# Altium footprint library SparkControl.PcbLib: 15 footprints
Each footprint in its own frame and in the unit in brackets; x right, y up, seen from the top. Pads: shape width x height; smd on the part's side, far side on the other; paste and mask are expansions set on the pad; w line width, h text height; cw(c..) or ccw(c..) is an arc to the next point about the centre after c.
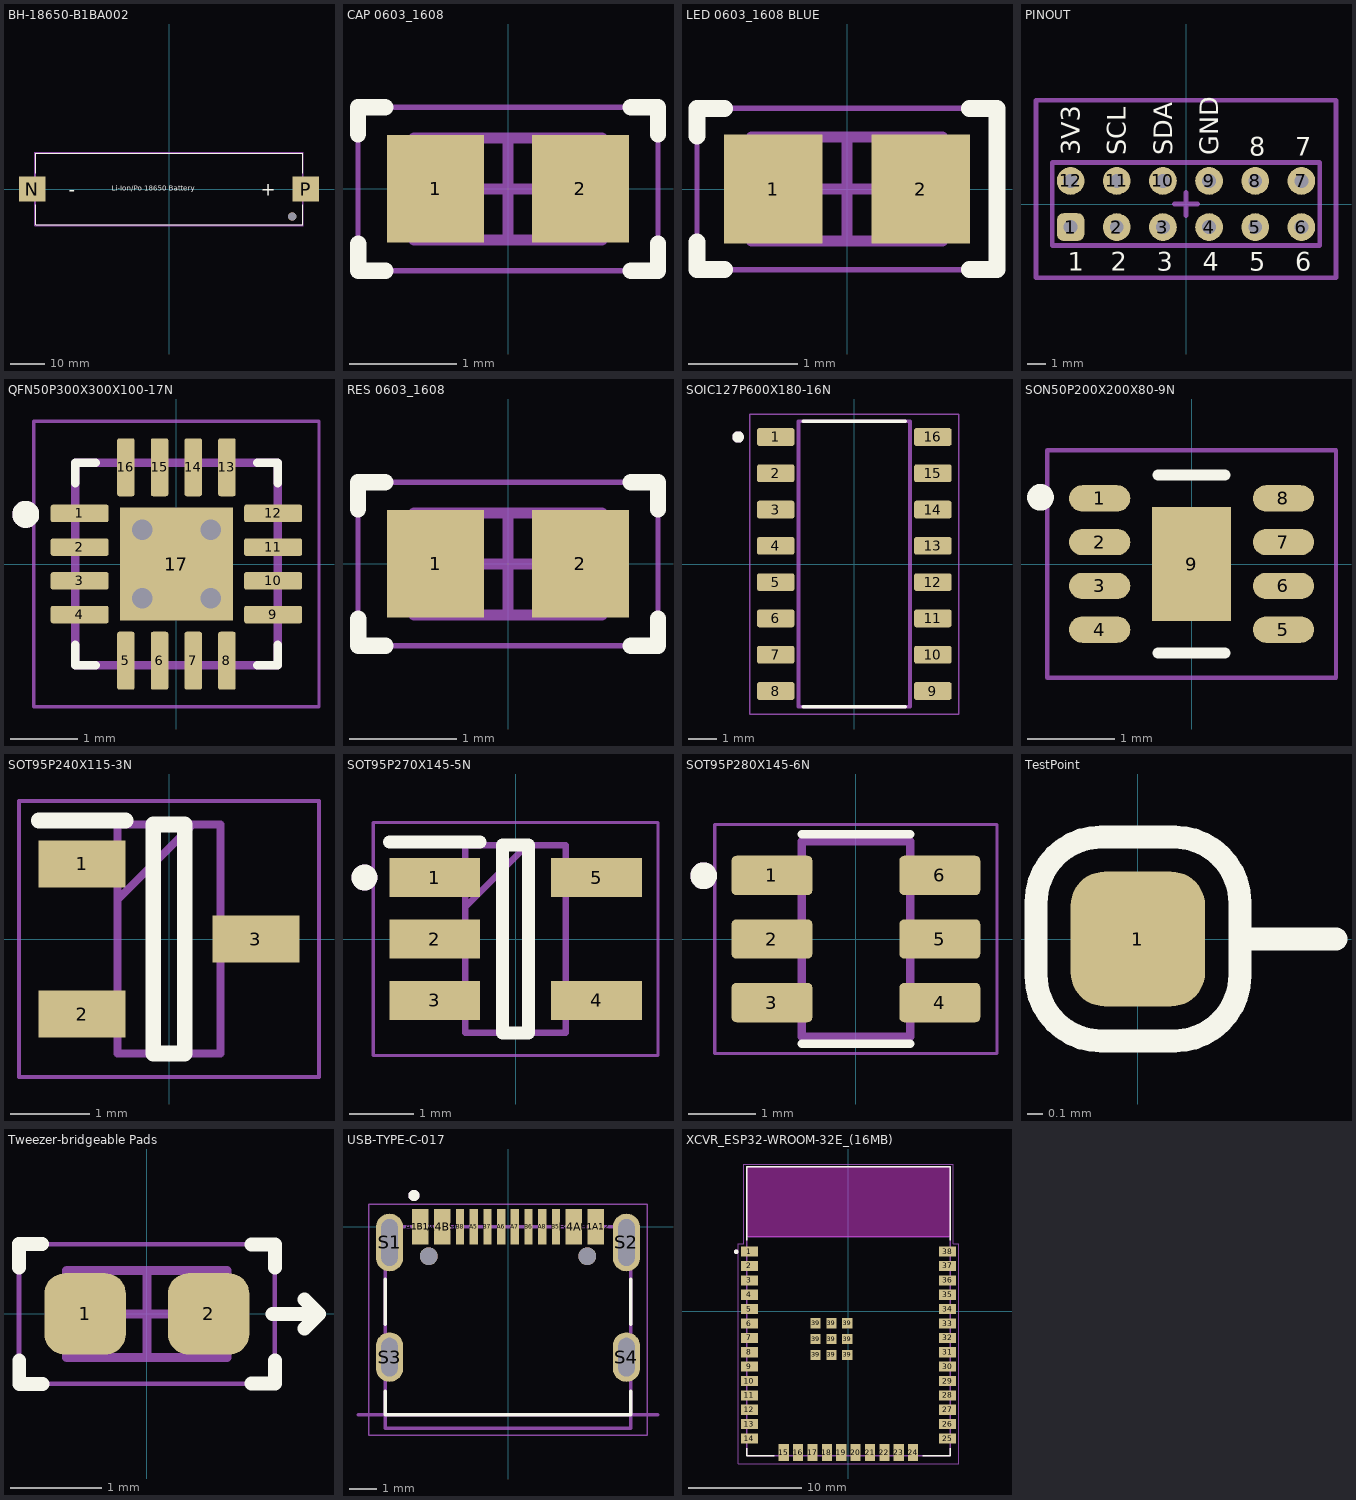
[diagram p0: the footprints below, top view; thin cyan lines are the x and y axes]

## BH-18650-B1BA002 [mm]
pads (3):
  rect 7.77x7.35 smd: N(-39.8,0)
  rect 7.7x7.35 smd: P(39.8,0)
  round 2.39 hole 2.4 unplated: ""(35.84,-8)
Top Overlay:
  lines w0.254: -38.862,-4.572 -38.862,-10.414 38.862,-10.414 38.862,-4.572 ; -38.862,4.572 -38.862,10.414 38.862,10.414 38.862,4.572
  text "Li-Ion/Po 18650 Battery" at -16.632,-0.508 h1.52
  text "-" at -29.21,-1.904 h3.81
  text "+" at 26.67,-1.904 h3.81
Mechanical 13:
  lines w0.127: -38.85,-10.45 -38.85,10.45 38.85,10.45 38.85,-10.45 -38.85,-10.45
  text "+" at 40.005,-0.762 h1.78
  text "-" at -41.275,-0.635 h1.78
Mechanical 15:
  lines w0.05: -39.1,-10.7 -39.1,10.7 39.1,10.7 39.1,-10.7 -39.1,-10.7
3D body "1042.STEP": height 14.86, standoff -3.43, extent -43.231,-10.325 43.231,10.325

## CAP 0603_1608 [mm] "Chip Capacitor, 2-Leads, Body 1.60x0.80mm, IPC Medium Density"
height 0.89
pads (2):
  rect 0.9x1 smd: 1(-0.675,0) 2(0.675,0)
Top Overlay:
  lines w0.152: -1.397,0.508 -1.397,0.762 -1.143,0.762 ; -1.394,-0.509 -1.394,-0.763 -1.14,-0.763 ; 1.143,-0.762 1.397,-0.762 1.397,-0.508 ; 1.143,0.761 1.397,0.761 1.397,0.507
Mechanical 13:
  lines w0.1: -0.875,-0.475 0.875,-0.475 0.875,0.475 -0.875,0.475 -0.875,-0.475
Mechanical 15:
  lines w0.05: -1.397,-0.762 1.397,-0.762 1.397,0.762 -1.397,0.762 -1.397,-0.762
  lines w0.1: -0.475,0 0.475,0 ; 0,-0.475 0,0.475
3D body "0603 cap.STEP": height 0.82, standoff 0, extent -0.8,-0.412 0.8,0.412

## LED 0603_1608 BLUE [mm] "Chip Diode, 2-Leads, Body 1.60x0.80mm, IPC Medium Density"
height 0.45
pads (2):
  rect 0.9x1 smd: 1(-0.675,0) 2(0.675,0)
Top Overlay:
  lines w0.152: -1.372,-0.483 -1.372,-0.737 -1.118,-0.737 ; -1.372,0.483 -1.372,0.737 -1.118,0.737 ; 1.118,-0.737 1.372,-0.737 1.372,0.737 1.118,0.737
Mechanical 13:
  lines w0.1: -0.875,-0.475 0.875,-0.475 0.875,0.475 -0.875,0.475 -0.875,-0.475
Mechanical 15:
  lines w0.05: -1.372,-0.737 1.372,-0.737 1.372,0.737 -1.372,0.737 -1.372,-0.737
  lines w0.1: -0.475,0 0.475,0 ; 0,-0.475 0,0.475
3D body "LED 0603 Lens BLUE.STEP": height 0.53, standoff 0.18, extent -0.55,-0.4 0.55,0.4
3D body "LED 0603 Base BLUE.STEP": height 0.28, standoff 0, extent -0.8,-0.4 0.8,0.4

## PINOUT [mil]
pads (12):
  rrect50% 60x60 hole 30: 1(-250,-50)
  round 60 hole 30: 2(-150,-50) 3(-50,-50) 4(50,-50) 5(150,-50) 6(250,-50) 7(250,50) 8(150,50) 9(50,50) 10(-50,50) 11(-150,50) 12(-250,50)
Top Overlay:
  text "3V3" at -230.01,106 h40
  text "SDA" at -30.01,106 h40
  text "8" at 136.67,105.01 h40
  text "SCL" at -130.01,106 h40
  text "GND" at 69.99,106 h40
  text "7" at 236.67,105.01 h40
  text "6" at 236.67,-144.99 h40
  text "5" at 136.67,-144.99 h40
  text "4" at 36.67,-144.99 h40
  text "3" at -63.33,-144.99 h40
  text "2" at -163.33,-144.99 h40
  text "1" at -256.66,-144.99 h40
Mechanical 13:
  lines w10: -290,-90 290,-90 290,90 -290,90 -290,-90
Mechanical 15:
  lines w10: -25,0 25,0 ; 0,-25 0,25 ; -325,-160 325,-160 325,225 -325,225 -325,-160

## QFN50P300X300X100-17N [mm]
pads (17):
  rrect25% 0.86x0.26 smd: 1(-1.435,0.75) 2(-1.435,0.25) 3(-1.435,-0.25) 4(-1.435,-0.75) 9(1.435,-0.75) 10(1.435,-0.25) 11(1.435,0.25) 12(1.435,0.75)
  rrect25% 0.26x0.86 smd: 5(-0.75,-1.435) 6(-0.25,-1.435) 7(0.25,-1.435) 8(0.75,-1.435) 13(0.75,1.435) 14(0.25,1.435) 15(-0.25,1.435) 16(-0.75,1.435)
  rect 1.68x1.68 smd paste-2: 17(0,0)
via -0.508,-0.508 diameter 0.6 hole 0.305
via 0.508,-0.508 diameter 0.6 hole 0.305
via 0.508,0.508 diameter 0.6 hole 0.305
via -0.508,0.508 diameter 0.6 hole 0.305
Top Overlay:
  circle w0.2: c-2.235,0.737 r0.1
  lines w0.127: -1.5,-1.2 -1.5,-1.5 -1.2,-1.5 ; -1.5,1.2 -1.5,1.5 -1.2,1.5 ; 1.2,-1.5 1.5,-1.5 1.5,-1.2 ; 1.2,1.5 1.5,1.5 1.5,1.2
Top Paste:
  region: 0.53,-0.53 -0.53,-0.53 -0.53,0.53 0.53,0.53
Mechanical 13:
  circle w0.2: c-2.235,0.737 r0.1
  lines w0.127: -1.5,-1.5 1.5,-1.5 1.5,1.5 -1.5,1.5 -1.5,-1.5
Mechanical 15:
  lines w0.05: -2.115,-2.115 2.115,-2.115 2.115,2.115 -2.115,2.115 -2.115,-2.115
3D body "BQ24075RGTR.STEP": height 1, standoff 0, extent -1.5,-1.5 1.5,1.5

## RES 0603_1608 [mm] "Chip Resistor, 2-Leads, Body 1.60x0.80mm, IPC Medium Density"
height 0.45
pads (2):
  rect 0.9x1 smd: 1(-0.675,0) 2(0.675,0)
Top Overlay:
  lines w0.152: -1.397,0.508 -1.397,0.762 -1.143,0.762 ; -1.394,-0.509 -1.394,-0.763 -1.14,-0.763 ; 1.143,-0.762 1.397,-0.762 1.397,-0.508 ; 1.143,0.761 1.397,0.761 1.397,0.507
Mechanical 13:
  lines w0.1: -0.875,-0.475 -0.875,0.475 0.875,0.475 0.875,-0.475 -0.875,-0.475
Mechanical 15:
  lines w0.05: -1.397,-0.762 1.397,-0.762 1.397,0.762 -1.397,0.762 -1.397,-0.762
  lines w0.1: -0.475,0 0.475,0 ; 0,-0.475 0,0.475
3D body "0603 resistor.STEP": height 0.45, standoff 0, extent -0.8,-0.4 0.8,0.4

## SOIC127P600X180-16N [mm]
pads (16):
  rrect25% 1.31x0.62 smd: 1(-2.75,4.445) 2(-2.75,3.175) 3(-2.75,1.905) 4(-2.75,0.635) 5(-2.75,-0.635) 6(-2.75,-1.905) 7(-2.75,-3.175) 8(-2.75,-4.445) 9(2.75,-4.445) 10(2.75,-3.175) 11(2.75,-1.905) 12(2.75,-0.635) 13(2.75,0.635) 14(2.75,1.905) 15(2.75,3.175) 16(2.75,4.445)
Top Overlay:
  circle w0.2: c-4.064,4.445 r0.1
  lines w0.127: -1.775,-5 1.775,-5 -1.775,-5 ; -1.775,5 1.775,5 -1.775,5
Mechanical 13:
  circle w0.2: c-4.064,4.445 r0.1
  lines w0.127: -1.95,-5 -1.95,5 1.95,5 1.95,-5 -1.95,-5
Mechanical 15:
  lines w0.05: -3.655,-5.25 3.655,-5.25 3.655,5.25 -3.655,5.25 -3.655,-5.25
3D body "step_temp.STEP": height 1.8, standoff 0, extent -3,-5 3,5

## SON50P200X200X80-9N [mm]
pads (9):
  oval 0.7x0.3 smd: 1(-1.05,0.75) 2(-1.05,0.25) 3(-1.05,-0.25) 4(-1.05,-0.75) 5(1.05,-0.75) 6(1.05,-0.25) 7(1.05,0.25) 8(1.05,0.75)
  rect 0.9x1.3 smd paste-2: 9(0,0)
Top Overlay:
  circle w0.203: c-1.727,0.762 r0.051
  lines w0.127: -0.381,-1.016 0.381,-1.016 ; -0.381,1.016 0.381,1.016
Top Paste:
  region: 0.255,-0.455 -0.255,-0.455 -0.255,0.455 0.255,0.455
Mechanical 15:
  lines w0.05: -1.65,-1.3 1.65,-1.3 1.65,1.3 -1.65,1.3 -1.65,-1.3
3D body "MAX17048G+.STEP": height 0.8, standoff 0, extent -1,-1 1,1

## SOT95P240X115-3N [mm]
pads (3):
  rect 1.1x0.6 smd: 1(-1.1,0.95) 2(-1.1,-0.95) 3(1.1,0)
Top Overlay:
  lines w0.2: -1.65,1.5 -0.55,1.5 ; -0.2,-1.45 0.2,-1.45 0.2,1.45 -0.2,1.45 -0.2,-1.45
Mechanical 13:
  lines w0.1: -0.65,0.5 0.3,1.45 ; -0.65,-1.45 0.65,-1.45 0.65,1.45 -0.65,1.45 -0.65,-1.45
Mechanical 15:
  lines w0.05: -1.9,-1.75 1.9,-1.75 1.9,1.75 -1.9,1.75 -1.9,-1.75
3D body "S8050.stp": height 1.15, standoff 0, extent -1.2,-1.45 1.2,1.45

## SOT95P270X145-5N [mm]
pads (5):
  rect 1.4x0.6 smd: 1(-1.25,0.95) 2(-1.25,0) 3(-1.25,-0.95) 4(1.25,-0.95) 5(1.25,0.95)
Top Overlay:
  circle w0.2: c-2.335,0.95 r0.1
  lines w0.2: -1.95,1.5 -0.55,1.5 ; -0.2,-1.45 -0.2,1.45 0.2,1.45 0.2,-1.45 -0.2,-1.45
Mechanical 13:
  circle w0.2: c-2.335,0.95 r0.1
Mechanical 15:
  lines w0.1: -0.775,0.5 0.175,1.45 ; -0.775,-1.45 -0.775,1.45 0.775,1.45 0.775,-1.45 -0.775,-1.45
Mechanical 20:
  lines w0.05: -2.2,-1.8 -2.2,1.8 2.2,1.8 2.2,-1.8 -2.2,-1.8
3D body "ME6211C33M5G-N.stp": height 1.45, standoff 0, extent -1.35,-1.45 1.35,1.45

## SOT95P280X145-6N [mm]
pads (6):
  rrect25% 1.21x0.59 smd: 1(-1.255,0.95) 2(-1.255,0) 3(-1.255,-0.95) 4(1.255,-0.95) 5(1.255,0) 6(1.255,0.95)
Top Overlay:
  circle w0.2: c-2.276,0.945 r0.1
  lines w0.127: -0.813,-1.565 0.813,-1.565 ; -0.813,1.565 0.813,1.565
Mechanical 13:
  circle w0.2: c-2.276,0.945 r0.1
  lines w0.127: -0.813,-1.462 0.813,-1.462 0.813,1.462 -0.813,1.462 -0.813,-1.462
Mechanical 15:
  lines w0.05: -2.11,-1.713 -2.11,1.713 2.11,1.713 2.11,-1.713 -2.11,-1.713
3D body "step_temp.STEP": height 1.44, standoff -0.01, extent -1.4,-1.462 1.4,1.462

## TestPoint [mil]
pads (1):
  rrect50% 35x35 smd mask+4: 1(0,0)
Top Overlay:
  lines w6: 26.5,0 51.5,0 ; -26.5,-9.5 ccw(c-9.5,-9.5) -9.5,-26.5 9.5,-26.5 ccw(c9.5,-9.5) 26.5,-9.5 26.5,9.5 ccw(c9.5,9.5) 9.5,26.5 -9.5,26.5 ccw(c-9.5,9.5) -26.5,9.5 -26.5,-9.5

## Tweezer-bridgeable Pads [mil]
pads (2):
  rrect50% 35x35 smd: 1(-26.57,0) 2(26.57,0)
Top Overlay:
  lines w6: -55,20 -55,30 -45,30 ; -54.9,-20.05 -54.9,-30.05 -44.9,-30.05 ; 45,-30 55,-30 55,-20 ; 44.99,29.95 54.99,29.95 54.99,19.95 ; 54,0 74,0 ; 67.75,-6.25 74,0 ; 67.75,6.25 74,0
Mechanical 13:
  lines w3.94: -34.45,-18.7 -34.45,18.7 34.45,18.7 34.45,-18.7 -34.45,-18.7
Mechanical 15:
  lines w1.97: -55,-30 55,-30 55,30 -55,30 -55,-30
  lines w3.94: -18.7,0 18.7,0 ; 0,-18.7 0,18.7

## USB-TYPE-C-017 [mm]
height 3.26
pads (18):
  rect 0.6x1.3 smd paste-100 mask+0.05: A1B12(-3.2,0.007) A4B9(-2.4,0.007) B1A12(3.2,0.007) B4A9(2.4,0.007)
  rect 0.3x1.3 smd paste-100 mask+0.05: A5(-1.25,0.007) A6(-0.25,0.007) A7(0.25,0.007) A8(1.25,0.007) B5(1.75,0.007) B6(0.75,0.007) B7(-0.75,0.007) B8(-1.75,0.007)
  oval 1x2.1 hole 0.6 slot 1.7 at 90 deg paste+0 mask+0.05: S1(-4.32,-0.571) S2(4.32,-0.571)
  oval 1x1.8 hole 0.6 slot 1.4 at 90 deg paste+0 mask+0.05: S3(-4.32,-4.751) S4(4.32,-4.751)
  round 0.65 hole 0.65 unplated paste+0: ""(-2.89,-1.07) ""(2.89,-1.071)
Top Overlay:
  circle w0.2: c-3.429,1.143 r0.1
  lines w0.127: -4.47,-6 -4.47,-6.86 4.47,-6.86 4.47,-6 ; -4.47,-3.55 -4.47,-1.91 ; 4.47,-3.55 4.47,-1.91
Top Paste:
  region: -4.82,-0.021 -4.82,0.078 -4.744,0.262 -4.603,0.403 -4.419,0.479 -4.221,0.479 -4.037,0.403 -3.896,0.262 -3.82,0.078 -3.82,-0.021 -3.82,-1.121 -3.82,-1.221 -3.896,-1.404 -4.037,-1.545 -4.221,-1.621 -4.419,-1.621 -4.603,-1.545 -4.744,-1.404 -4.82,-1.221 -4.82,-1.121
  region: 3.82,-0.021 3.82,0.078 3.896,0.262 4.037,0.403 4.221,0.479 4.42,0.479 4.603,0.403 4.744,0.262 4.82,0.078 4.82,-0.021 4.82,-1.121 4.82,-1.221 4.744,-1.404 4.603,-1.545 4.42,-1.621 4.221,-1.621 4.037,-1.545 3.896,-1.404 3.82,-1.221 3.82,-1.121
  region: -4.82,-4.351 -4.82,-4.252 -4.744,-4.068 -4.603,-3.927 -4.419,-3.851 -4.221,-3.851 -4.037,-3.927 -3.896,-4.068 -3.82,-4.252 -3.82,-4.351 -3.82,-5.151 -3.82,-5.25 -3.896,-5.434 -4.037,-5.575 -4.221,-5.651 -4.419,-5.651 -4.603,-5.575 -4.744,-5.434 -4.82,-5.25 -4.82,-5.151
  region: 3.82,-4.351 3.82,-4.252 3.896,-4.068 4.037,-3.927 4.221,-3.851 4.42,-3.851 4.603,-3.927 4.744,-4.068 4.82,-4.252 4.82,-4.351 4.82,-5.151 4.82,-5.25 4.744,-5.434 4.603,-5.575 4.42,-5.651 4.221,-5.651 4.037,-5.575 3.896,-5.434 3.82,-5.25 3.82,-5.151
  region: -1.9,0.657 -1.6,0.657 -1.6,-0.643 -1.9,-0.643
  region: -1.4,0.657 -1.1,0.657 -1.1,-0.643 -1.4,-0.643
  region: -0.9,0.657 -0.6,0.657 -0.6,-0.643 -0.9,-0.643
  region: -0.4,0.657 -0.1,0.657 -0.1,-0.643 -0.4,-0.643
  region: 0.1,0.657 0.4,0.657 0.4,-0.643 0.1,-0.643
  region: 0.6,0.657 0.9,0.657 0.9,-0.643 0.6,-0.643
  region: 1.1,0.657 1.4,0.657 1.4,-0.643 1.1,-0.643
  region: 1.6,0.657 1.9,0.657 1.9,-0.643 1.6,-0.643
  region: 2.1,0.657 2.7,0.657 2.7,-0.643 2.1,-0.643
  region: 2.9,0.657 3.5,0.657 3.5,-0.643 2.9,-0.643
  region: -2.7,0.657 -2.1,0.657 -2.1,-0.643 -2.7,-0.643
  region: -3.5,0.657 -2.9,0.657 -2.9,-0.643 -3.5,-0.643
Mechanical 13:
  circle w0.2: c-3.429,1.143 r0.1
  lines w0.127: -5.47,-6.86 5.47,-6.86 ; -4.47,-7.35 4.47,-7.35 4.47,0 -4.47,0 -4.47,-7.35
Mechanical 15:
  circle w0.3: c2.89,-1.07 r0.15
  circle w0.3: c-2.89,-1.07 r0.15
  lines w0.05: -5.075,-7.6 5.075,-7.6 5.075,0.82 -5.075,0.82 -5.075,-7.6
3D body "step_temp.STEP": height 3.26, standoff -1, extent -4.47,-7.296 4.47,0.454

## XCVR_ESP32-WROOM-32E_(16MB) [mm]
height 3.25
pads (47):
  rect 1.5x0.9 smd: 1(-8.75,5.26) 2(-8.75,3.99) 3(-8.75,2.72) 4(-8.75,1.45) 5(-8.75,0.18) 6(-8.75,-1.09) 7(-8.75,-2.36) 8(-8.75,-3.63) 9(-8.75,-4.9) 10(-8.75,-6.17) 11(-8.75,-7.44) 12(-8.75,-8.71) 13(-8.75,-9.98) 14(-8.75,-11.25) 25(8.75,-11.25) 26(8.75,-9.98) 27(8.75,-8.71) 28(8.75,-7.44) 29(8.75,-6.17) 30(8.75,-4.9) 31(8.75,-3.63) 32(8.75,-2.36) 33(8.75,-1.09) 34(8.75,0.18) 35(8.75,1.45) 36(8.75,2.72) 37(8.75,3.99) 38(8.75,5.26)
  rect 0.9x1.5 smd: 15(-5.715,-12.5) 16(-4.445,-12.5) 17(-3.175,-12.5) 18(-1.905,-12.5) 19(-0.635,-12.5) 20(0.635,-12.5) 21(1.905,-12.5) 22(3.175,-12.5) 23(4.445,-12.5) 24(5.715,-12.5)
  rect 0.9x0.9 smd: 39(-2.9,-3.86) 39(-2.9,-2.46) 39(-2.9,-1.06) 39(-1.5,-3.86) 39(-1.5,-2.46) 39(-1.5,-1.06) 39(-0.1,-3.86) 39(-0.1,-2.46) 39(-0.1,-1.06)
Top Overlay:
  circle w0.2: c-9.906,5.258 r0.1
  lines w0.127: -9,-12.1 -9,-12.75 -6.55,-12.75 ; -9,6.25 -9,12.75 9,12.75 9,6.25 ; 6.55,-12.75 9,-12.75 9,-12.1
Keep-Out Layer:
  region: 9,6.56 -9,6.56 -9,12.75 9,12.75
Mechanical 13:
  circle w0.2: c-9.906,5.258 r0.1
  lines w0.127: -9,6.56 9,6.56 ; -9,6.56 -9,12.75 9,12.75 9,6.56 ; -9,6.56 -9,-12.75 9,-12.75 9,6.56
  text "ANTENNA" at -6,9 h1.78
Mechanical 15:
  lines w0.05: -9.75,-13.5 -9.75,5.96 -9.25,5.96 -9.25,13 9.25,13 9.25,5.96 9.75,5.96 9.75,-13.5 -9.75,-13.5
3D body "step_temp.STEP": height 3.25, standoff 0, extent -9,-12.75 9,12.75